# EAGLE library part PCA9511/13/14 (library philips_I2C_repeaters-hubs-expanders)
Hot swappable I2C-bus buffer The PCA9511, PCA9513 and PCA9514 are hot swappable I2C and SMBus buffers that allows I/O card insertion into a live backplane without corrupting the data and clock buses. Control circuitry prevents the backplane from being connected to the card until a stop command or bus idle occurs on the backplane without bus contention on the card. When the connection is made, the PCA9511, PCA9513, and PCA9514 provides bi-directional buffering, keeping the backplane and card capacitances isolated.
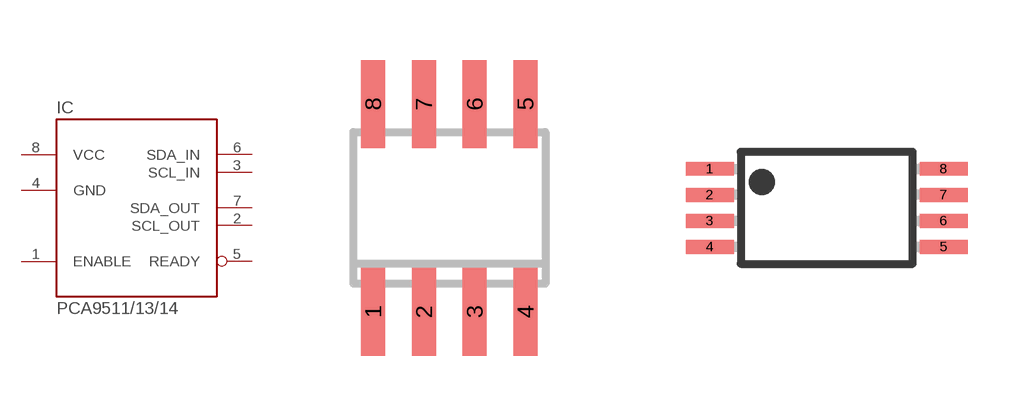
[diagram p1: symbol with the pads of SO8; footprints SO8, TSSOP8]

Designator prefix IC

## PCA9511/13/14D-T  [SO8]
1  ENABLE  in
2  SCL_OUT  out
3  SCL_IN  in
4  GND  pwr
5  READY  out
6  SDA_IN  in
7  SDA_OUT  out
8  VCC  pwr

## PCA9511/13/14DP-T  [TSSOP8]
Pads as for SO8

## Footprint SO8 (pad centres in mm)
SMALL OUTLINE INTEGRATED CIRCUIT
smd 0.6 x 2.2: 1 -1.905,-2.6; 2 -0.635,-2.6; 3 0.635,-2.6; 4 1.905,-2.6; 5 1.905,2.6; 6 0.635,2.6; 7 -0.635,2.6; 8 -1.905,2.6

## Footprint TSSOP8 (pad centres in mm)
Plastic Small Outline
smd 1.2 x 0.35: 1 -2.925,0.975; 2 -2.925,0.325; 3 -2.925,-0.325; 4 -2.925,-0.975; 5 2.925,-0.975; 6 2.925,-0.325; 7 2.925,0.325; 8 2.925,0.975